# Altium schematic symbol library CAP_450V_330uF.SchLib: 1 symbol
Pins are listed as number, name and electrical type; pins without a type are passive.

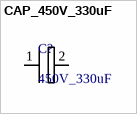
[diagram p0: symbol CAP_450V_330uF]

## CAP_450V_330uF
designator C?, comment 450V_330uF
footprint CAP_450V_330uF
pins: 1, 2